# EAGLE library part AD8021 (library Radicon)
AD8021 Low Noise, High Speed Amplifier for 16-Bit Systems
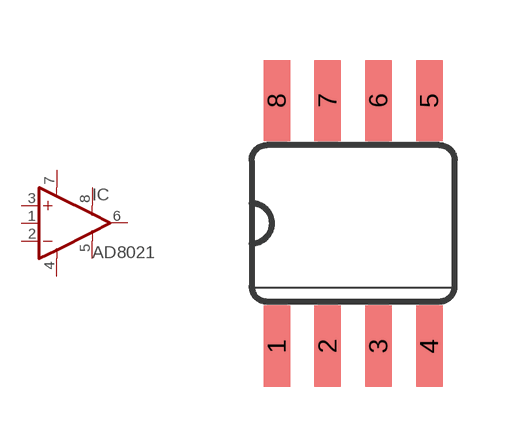
[diagram p32: symbol with the pads of SO08; footprint SO08]

Designator prefix IC

## AD8021  [SO08]
1  REF  in
2  -IN  in
3  +IN  in
4  V-  in
5  COMP  in
6  OUT  out
7  V+  in
8  !ENABLE  in

## Footprint SO08 (pad centres in mm)
Small Outline package 8 150 mil
smd 0.66 x 2.032: 1 -1.905,-3.073; 2 -0.635,-3.073; 3 0.635,-3.073; 4 1.905,-3.073; 5 1.905,3.073; 6 0.635,3.073; 7 -0.635,3.073; 8 -1.905,3.073